# EAGLE library part CAY17_BUSSED_RESISTOR_ARRAY (library PP_Passives)
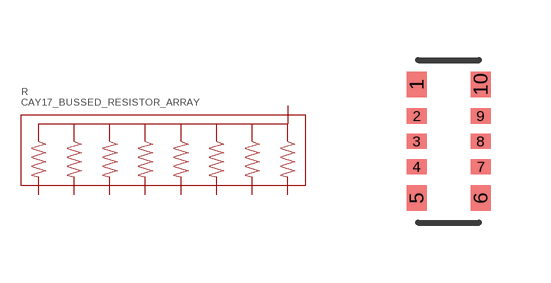
[diagram p2: symbol with the pads of CAY17; footprint CAY17]

Designator prefix R

## CAY17_BUSSED_RESISTOR_ARRAY  [CAY17]
1  2  pas
2  3  pas
3  4  pas
4  5  pas
5  COM  pas
6  6  pas
7  7  pas
8  8  pas
9  9  pas
10  COM  pas

## Footprint CAY17 (pad centres in mm)
smd 0.508 x 0.635: 1 -0.8,1.422; 5 -0.8,-1.422; 6 0.8,-1.422; 10 0.8,1.422
smd 0.508 x 0.381: 2 -0.8,0.635; 3 -0.8,0; 4 -0.8,-0.635; 7 0.8,-0.635; 8 0.8,0; 9 0.8,0.635